# Altium footprint library ESDA25L.PcbLib: 3 footprints
Each footprint in its own frame and in the unit in brackets; x right, y up, seen from the top. Pads: shape width x height; smd on the part's side, far side on the other; paste and mask are expansions set on the pad; w line width, h text height; cw(c..) or ccw(c..) is an arc to the next point about the centre after c.
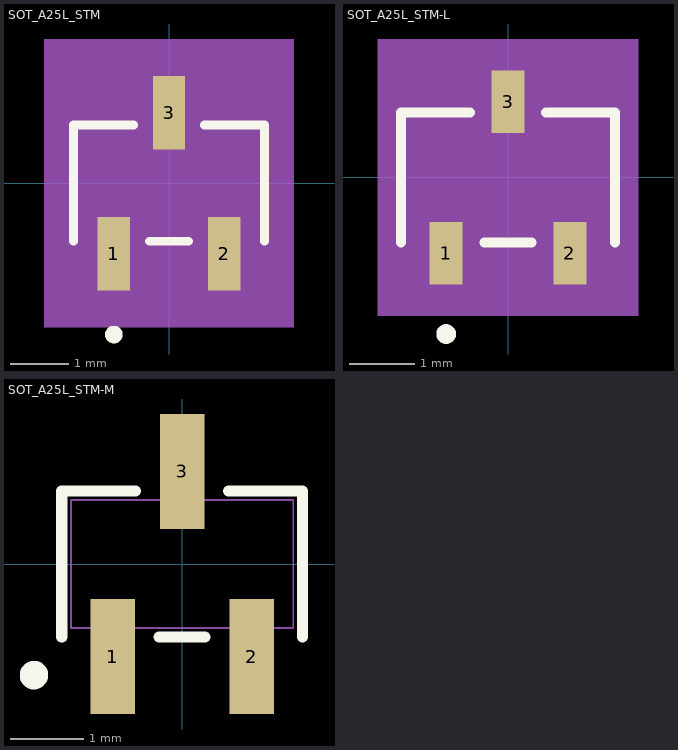
[diagram p0: the footprints below, top view; thin cyan lines are the x and y axes]

## SOT_A25L_STM [mil]
pads (3):
  rect 22x50 smd paste+0 mask+0: 1(-37.5,-48) 2(37.5,-48) 3(0,48)
Top Overlay:
  circle w6: c-37.5,-103 r3
  lines w6: -65,-39.5 -65,39.5 -24.1,39.5 ; -13.4,-39.5 13.4,-39.5 ; 24.1,39.5 65,39.5 65,-39.5
Mechanical 5:
  region: -85,98 85,98 85,-98 -85,-98
Mechanical 13:
  circle w0: c-37.5,-24.5 r3
  lines w1: -60,-34.5 -60,34.5 60,34.5 60,-34.5 -60,-34.5 ; -47.5,-59 -27.5,-59 -27.5,-34.5 -47.5,-34.5 -47.5,-59 ; -10,34.5 -10,59 10,59 10,34.5 -10,34.5 ; 27.5,-59 47.5,-59 47.5,-34.5 27.5,-34.5 27.5,-59
Mechanical 15:
  region: -70,-44.5 -70,44.5 -20,44.5 -20,83 20,83 20,44.5 70,44.5 70,-44.5 57.5,-44.5 57.5,-83 -57.5,-83 -57.5,-44.5
  lines w6: -70,-44.5 -57.5,-44.5 -57.5,-83 57.5,-83 57.5,-44.5 70,-44.5 70,44.5 20,44.5 20,83 -20,83 -20,44.5 -70,44.5 -70,-44.5
3D body "SOT_A25L_STM.step": height 55.12, standoff 0, extent -60,-59.02 60,59.02

## SOT_A25L_STM-L [mil]
pads (3):
  rect 20x38 smd paste+0 mask+0: 1(-37.5,-46) 2(37.5,-46) 3(0,46)
Top Overlay:
  circle w6: c-37.5,-95 r3
  lines w6: -65,-39.5 -65,39.5 -23.1,39.5 ; -14.4,-39.5 14.4,-39.5 ; 23.1,39.5 65,39.5 65,-39.5
Mechanical 5:
  region: -79,84 79,84 79,-84 -79,-84
Mechanical 13:
  circle w0: c-37.5,-24.5 r3
  lines w1: -60,-34.5 -60,34.5 60,34.5 60,-34.5 -60,-34.5 ; -47.5,-59 -27.5,-59 -27.5,-34.5 -47.5,-34.5 -47.5,-59 ; -10,34.5 -10,59 10,59 10,34.5 -10,34.5 ; 27.5,-59 47.5,-59 47.5,-34.5 27.5,-34.5 27.5,-59
Mechanical 15:
  region: -64,-38.5 -64,38.5 -14,38.5 -14,69 14,69 14,38.5 64,38.5 64,-38.5 51.5,-38.5 51.5,-69 -51.5,-69 -51.5,-38.5
  lines w6: -64,-38.5 -51.5,-38.5 -51.5,-69 51.5,-69 51.5,-38.5 64,-38.5 64,38.5 14,38.5 14,69 -14,69 -14,38.5 -64,38.5 -64,-38.5
3D body "SOT_A25L_STM.step": height 55.12, standoff 0, extent -60,-59.02 60,59.02

## SOT_A25L_STM-M [mil]
pads (3):
  rect 24x62 smd paste+0 mask+0: 1(-37.5,-50) 2(37.5,-50) 3(0,50)
Top Overlay:
  circle w10: c-80,-60 r2.69
  lines w6: -65,-39.5 -65,39.5 -25.1,39.5 ; -12.4,-39.5 12.4,-39.5 ; 25.1,39.5 65,39.5 65,-39.5
Mechanical 13:
  circle w0: c-37.5,-24.5 r3
  lines w1: -60,-34.5 60,-34.5 60,34.5 -60,34.5 -60,-34.5 ; -47.5,-59 -47.5,-34.5 -27.5,-34.5 -27.5,-59 -47.5,-59 ; -10,34.5 10,34.5 10,59 -10,59 -10,34.5 ; 27.5,-59 27.5,-34.5 47.5,-34.5 47.5,-59 27.5,-59
3D body "SOT_A25L_STM.step": height 55.12, standoff 0, extent -60,-59.02 60,59.02